# EAGLE library part MTU_V1 (library EpicFMSLib)
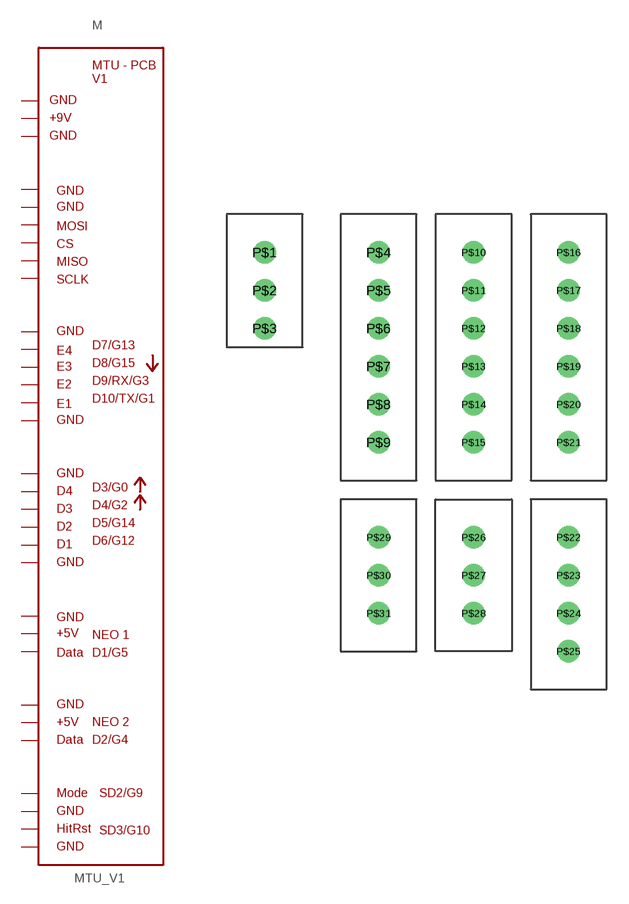
[diagram p0: symbol with the pads of MTU_V1; footprint MTU_V1]

Designator prefix M

## MTU_V1  [MTU_V1]
P$1  P$1
P$2  P$2
P$3  P$3
P$4  P$4
P$5  P$5
P$6  P$6
P$7  P$7
P$8  P$8
P$9  P$9
P$10  P$10
P$11  P$11
P$12  P$12
P$13  P$13
P$14  P$14
P$15  P$15
P$16  P$16
P$17  P$17
P$18  P$18
P$19  P$19
P$20  P$20
P$21  P$21
P$22  P$22
P$23  P$23
P$24  P$24
P$25  P$25
P$26  P$26
P$27  P$27
P$28  P$28
P$29  P$29
P$30  P$30
P$31  P$31

## Footprint MTU_V1 (pad centres in mm)
drill 1: P$1 1.27,0; P$2 1.27,-2.54; P$3 1.27,-5.08; P$4 8.89,0; P$5 8.89,-2.54; P$6 8.89,-5.08; P$7 8.89,-7.62; P$8 8.89,-10.16; P$9 8.89,-12.7; P$10 15.24,0; P$11 15.24,-2.54; P$12 15.24,-5.08; P$13 15.24,-7.62; P$14 15.24,-10.16; P$15 15.24,-12.7; P$16 21.59,0; P$17 21.59,-2.54; P$18 21.59,-5.08; P$19 21.59,-7.62; P$20 21.59,-10.16; P$21 21.59,-12.7; P$22 21.59,-19.05; P$23 21.59,-21.59; P$24 21.59,-24.13; P$25 21.59,-26.67; P$26 15.24,-19.05; P$27 15.24,-21.59; P$28 15.24,-24.13; P$29 8.89,-19.05; P$30 8.89,-21.59; P$31 8.89,-24.13